# EAGLE library part ADXL345 (library RoboJackets-Sensors)
Accelerometer X, Y, Z Axis ±2g, 4g, 8g, 16g 0.05Hz ~ 1.6kHz 14-LGA (3x5)
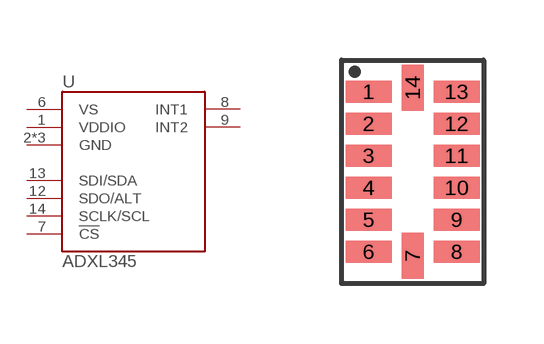
[diagram p0: symbol with the pads of ADXL345; footprint ADXL345]

Designator prefix U

## ADXL345 (DKPN: ADXL345BCCZ-ND)  [ADXL345]
1  VDDIO
2  GND
4  GND
5  GND
6  VS
7  !CS
8  INT1
9  INT2
12  SDO/ALT
13  SDI/SDA
14  SCLK/SCL

## Footprint ADXL345 (pad centres in mm)
smd 1.145 x 0.55: 1 -1.1,2; 2 -1.1,1.2; 3 -1.1,0.4; 4 -1.1,-0.4; 5 -1.1,-1.2; 6 -1.1,-2; 8 1.1,-2; 9 1.1,-1.2; 10 1.1,-0.4; 11 1.1,0.4; 12 1.1,1.2; 13 1.1,2
smd 0.55 x 1.145: 7 0,-2.1; 14 0,2.1